# EAGLE library part TPS7A8300RGRR (library My_Library_RADAR)
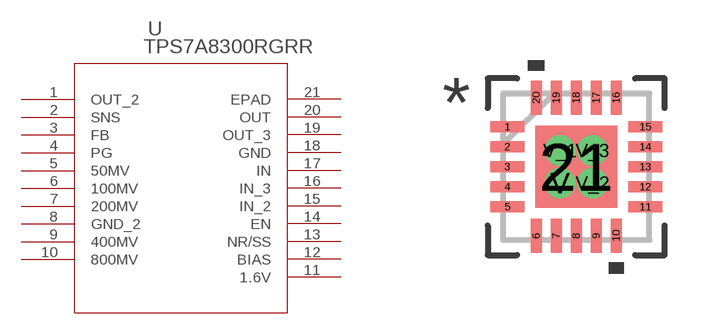
[diagram p27: symbol with the pads of RGR20_2P05X2P05_TEX; footprint RGR20_2P05X2P05_TEX]

Designator prefix U

## TPS7A8300RGRR (COPYRIGHT: Copyright (C) 2025 Ultra Librarian. All rights reserved.; DATASHEET: https://www.ti.com/lit/gpn/tps7a8300; DESCRIPTION: 2-A, low-VIN, low-2-A, low-VIN, low-noise, ultra-low-dropout voltage regulator with power good wi 20-VQFN -40 to 125; MANUFACTURER_NAME: Texas Instruments; MANUFACTURER_PART_NUMBER: TPS7A8300RGRR)  [RGR20_2P05X2P05_TEX]
1  OUT_2  out
2  SNS  in
3  FB  in
4  PG  out
5  50MV  in
6  100MV  in
7  200MV  in
8  GND_2  pwr
9  400MV  in
10  800MV  in
11  1.6V  in
12  BIAS  in
13  NR/SS  pas
14  EN  in
15  IN_2  in
16  IN_3  in
17  IN  in
18  GND  pwr
19  OUT_3  out
20  OUT  out
21  EPAD  pas

## Footprint RGR20_2P05X2P05_TEX (pad centres in mm)
smd 0.85 x 0.28: 1 -1.725,1; 2 -1.725,0.5; 3 -1.725,0; 4 -1.725,-0.5; 5 -1.725,-1; 11 1.725,-1; 12 1.725,-0.5; 13 1.725,0; 14 1.725,0.5; 15 1.725,1
smd 0.28 x 0.85: 6 -1,-1.725; 7 -0.5,-1.725; 8 0,-1.725; 9 0.5,-1.725; 10 1,-1.725; 16 1,1.725; 17 0.5,1.725; 18 0,1.725; 19 -0.5,1.725; 20 -1,1.725
smd 2.05 x 2.05: 21 0,0
drill 0.254 pad 0.508: V -0.406,-0.406; V_1 -0.406,0.406; V_2 0.406,-0.406; V_3 0.406,0.406